# Altium integrated library Connectors - Edge - Mezzanine - Board to Board.IntLib: 4 symbols
Pins are listed as number, name and electrical type; pins without a type are passive.

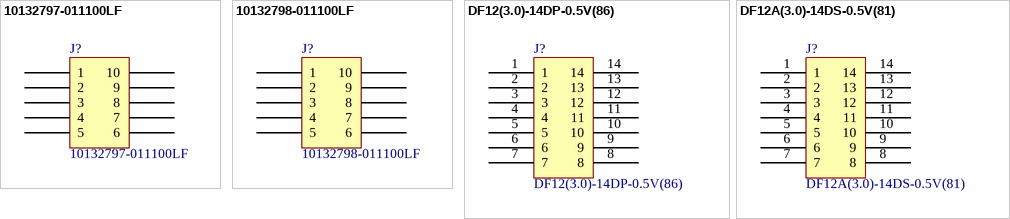
[diagram p0: symbols 10132797-011100LF to DF12A(3.0)-14DS-0.5V(81)]

## 10132797-011100LF
designator J?
CONN PLUG 10POS SMD GOLD; Manufacturer: Amphenol ICC (FCI); Connector Type: Plug, Outer Shroud Contacts; Mated Stacking Heights: 3mm; Number of Positions: 10; Pitch: 0.020" (0.50mm); Part Number: 10132797-011100LF; ComponentLink1Description: Datasheet; ComponentLink1URL: https://cdn.amphenol-icc.com/media/wysiwyg/files/documentation/datasheet/boardwiretoboard/bwb_bergstak_05mm_mezzanine.pdf; ComponentLink2Description: DigiKey Link; ComponentLink2URL: http://digikey.com/product-detail/en/amphenol-icc-fci/10132797-011100LF/609-5020-1-ND/5761556; Contact Finish: Gold; Contact Finish Thickness: 1.00µin (0.025µm); Features: Board Guide, Solder Retention; Height Above Board: 0.091" (2.30mm); LastUpdated: 8/6/2020 10:49:45 PM; Lifecycle Status: Active; Minimum Order: 1; Mounting Type: Surface Mount; Number of Rows: 2; Packaging: TapeAndReel; Part Status: Active; Price: 0.27; Series: BergStak®, MezzSelect™; Supplier 1: DigiKey; Supplier Part Number 1: 609-5020-1-ND
footprint AMPHENOL 10132797-011100LF
pins: 1, 2, 3, 4, 5, 6, 7, 8, 9, 10

## 10132798-011100LF
designator J?
CONN RCPT 10POS SMD GOLD; Manufacturer: Amphenol ICC (FCI); Connector Type: Receptacle, Center Strip Contacts; Mated Stacking Heights: 3mm, 3.5mm, 4mm, 4.5mm; Number of Positions: 10; Pitch: 0.020" (0.50mm); Part Number: 10132798-011100LF; ComponentLink1Description: Datasheet; ComponentLink1URL: https://cdn.amphenol-icc.com/media/wysiwyg/files/documentation/datasheet/boardwiretoboard/bwb_bergstak_05mm_mezzanine.pdf; ComponentLink2Description: DigiKey Link; ComponentLink2URL: http://digikey.com/product-detail/en/amphenol-icc-fci/10132798-011100LF/609-5026-1-ND/5761562; Contact Finish: Gold; Contact Finish Thickness: 1.00µin (0.025µm); Features: Board Guide, Solder Retention; Height Above Board: 0.085" (2.16mm); LastUpdated: 8/6/2020 10:50:50 PM; Lifecycle Status: Active; Minimum Order: 1; Mounting Type: Surface Mount; Number of Rows: 2; Packaging: TapeAndReel; Part Status: Active; Price: 0.27; Series: BergStak®, MezzSelect™; Supplier 1: DigiKey; Supplier Part Number 1: 609-5026-1-ND
footprint AMPHENOL 10132798-011100LF
pins: 1, 2, 3, 4, 5, 6, 7, 8, 9, 10

## DF12(3.0)-14DP-0.5V(86)
designator J?
CONN HDR 14POS SMD GOLD; Manufacturer: Hirose Electric Co Ltd; Connector Type: Header, Outer Shroud Contacts; Mated Stacking Heights: 3mm; Number of Positions: 14; Pitch: 0.020" (0.50mm); Part Number: DF12(3.0)-14DP-0.5V(86); ComponentLink1Description: Datasheet; ComponentLink1URL: https://www.hirose.com/product/download/?distributor=digikey&type=specSheet&lang=en&num=DF12(3.0)-14DP-0.5V(86); ComponentLink2Description: DigiKey Link; ComponentLink2URL: http://digikey.com/product-detail/en/hirose-electric-co-ltd/DF12-3.0-14DP-0.5V-86/H11701CT-ND/2172493; Contact Finish: Gold; Contact Finish Thickness: 8.00µin (0.203µm); Features: Board Guide, Solder Retention; Height Above Board: 0.091" (2.30mm); LastUpdated: 8/6/2020 10:47:47 PM; Lifecycle Status: Active; Minimum Order: 1; Mounting Type: Surface Mount; Number of Rows: 2; Packaging: TapeAndReel; Part Status: Active; Price: 0.38; Series: DF12; Supplier 1: DigiKey; Supplier Part Number 1: H11701CT-ND
footprint HIROSE DF12 3.0-14DP-0.5V 86
pins: 1, 2, 3, 4, 5, 6, 7, 8, 9, 10, 11, 12, 13, 14

## DF12A(3.0)-14DS-0.5V(81)
designator J?
CONN RCPT 14POS SMD GOLD; Manufacturer: Hirose Electric Co Ltd; Connector Type: Receptacle, Center Strip Contacts; Mated Stacking Heights: 3mm; Number of Positions: 14; Pitch: 0.020" (0.50mm); Part Number: DF12A(3.0)-14DS-0.5V(81); ComponentLink1Description: Datasheet; ComponentLink1URL: https://www.hirose.com/product/document?clcode=CL0537-0721-0-86&productname=DF12(3.0)-10DP-0.5V(86)&series=DF12&documenttype=Catalog&lang=en&documentid=D31693_en; ComponentLink2Description: DigiKey Link; ComponentLink2URL: http://digikey.com/product-detail/en/hirose-electric-co-ltd/DF12A-3.0-14DS-0.5V-81/H11713CT-ND/2172505; Contact Finish: Gold; Contact Finish Thickness: 8.00µin (0.203µm); Features: Board Guide; Height Above Board: 0.087" (2.20mm); LastUpdated: 8/6/2020 10:48:47 PM; Lifecycle Status: Active; Minimum Order: 1; Mounting Type: Surface Mount; Number of Rows: 2; Packaging: TapeAndReel; Part Status: Active; Price: 0.36; Series: DF12; Supplier 1: DigiKey; Supplier Part Number 1: H11713CT-ND
footprint HIROSE DF12A 3.0-14DS-0.5V 81
pins: 1, 2, 3, 4, 5, 6, 7, 8, 9, 10, 11, 12, 13, 14